# EAGLE library part BUF04 (library opamps)
BUF04: High speed buffer (Analog Devices) ±15V, ±40mA, 10µA bias 4mV offset, 110MHz UGF, 4nV/rt(Hz) noise
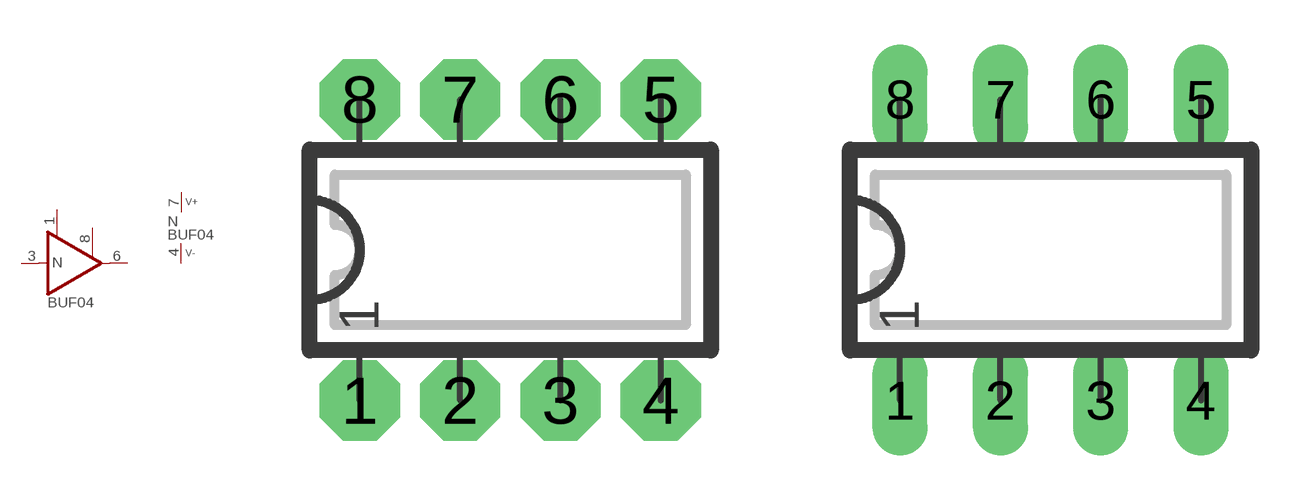
[diagram p204: symbol with the pads of DIP08N; footprints DIP08N, DIP08L]

Designator prefix N; gates A=BUF_2 P=V+-

## BUF04N  [DIP08N]
1  A:OFS1
3  A:IN  in
4  P:V-  pwr
6  A:OUT  out
7  P:V+  pwr
8  A:OFS2

## BUF04L  [DIP08L]
Pads as for DIP08N

## BUF04R  [DIP08R]
Pads as for DIP08N

## BUF04S  [SO08]
Pads as for DIP08N

## BUF04  [DIP08L]
Pads as for DIP08N

## Footprint DIP08N (pad centres in mm)
DIP-8 Standard IC package, 8 pins
drill 0.813 pad 2.032 octagon: 1 -3.81,-3.81; 2 -1.27,-3.81; 3 1.27,-3.81; 4 3.81,-3.81; 5 3.81,3.81; 6 1.27,3.81; 7 -1.27,3.81; 8 -3.81,3.81

## Footprint DIP08L (pad centres in mm)
DIP-8, long pads Standard IC package, 8 pins
drill 0.813 pad 1.397 long: 1 -3.81,-3.81; 2 -1.27,-3.81; 3 1.27,-3.81; 4 3.81,-3.81; 5 3.81,3.81; 6 1.27,3.81; 7 -1.27,3.81; 8 -3.81,3.81

## Footprint DIP08R (pad centres in mm)
DIP-8, reduced pads Standard IC package, 8 pins
drill 0.813 pad 1.397 square: 1 -3.81,-3.81; 2 -1.27,-3.81; 3 1.27,-3.81; 4 3.81,-3.81; 5 3.81,3.81; 6 1.27,3.81; 7 -1.27,3.81; 8 -3.81,3.81

## Footprint SO08 (pad centres in mm)
SO-8, SMD SOIC IC package, 8 pins
smd 0.635 x 1.778: 1 -1.905,-2.857; 2 -0.635,-2.857; 3 0.635,-2.857; 4 1.905,-2.857; 5 1.905,2.857; 6 0.635,2.857; 7 -0.635,2.857; 8 -1.905,2.857